# Altium footprint library 常用天线库.PcbLib: 31 footprints (part 2 of 2)
Each footprint in its own frame and in the unit in brackets; x right, y up, seen from the top. Pads: shape width x height; smd on the part's side, far side on the other; paste and mask are expansions set on the pad; w line width, h text height; cw(c..) or ccw(c..) is an arc to the next point about the centre after c.
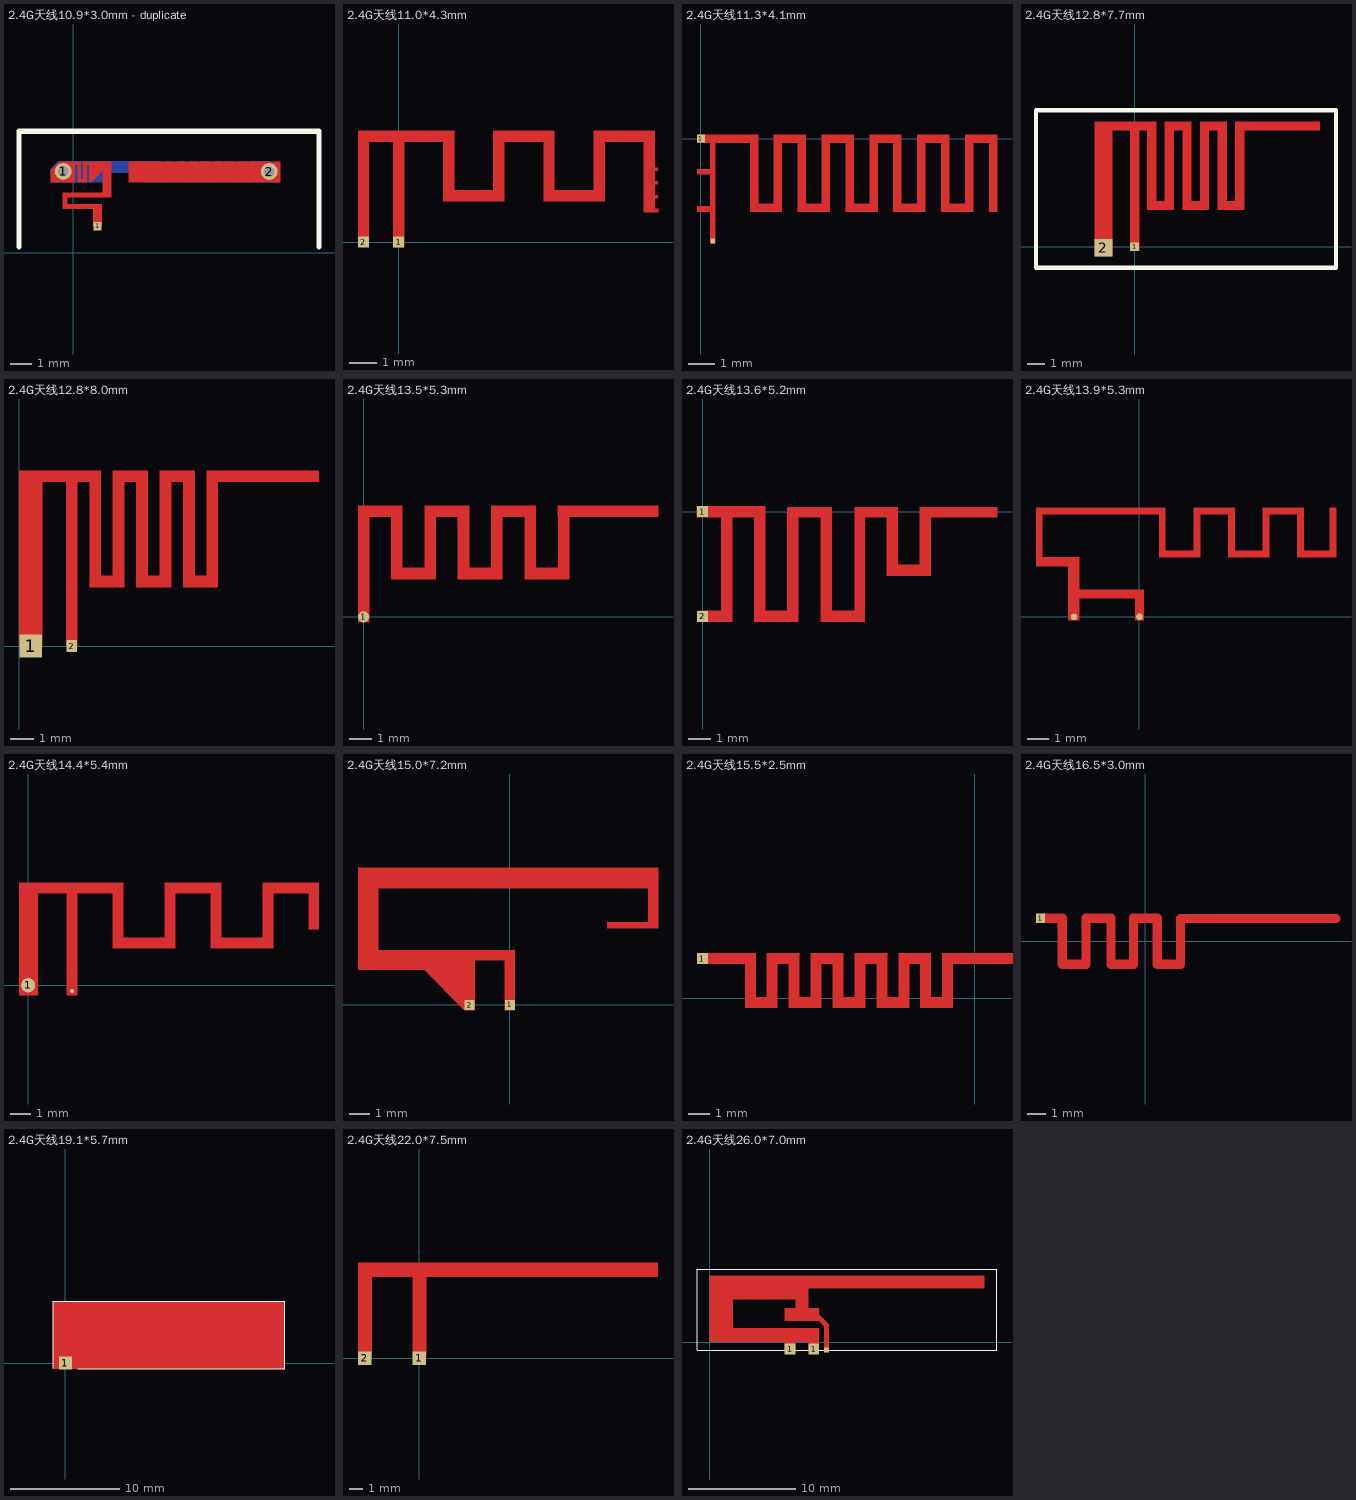
[diagram p1: the footprints below, top view; thin cyan lines are the x and y axes]

## 2.4G天线10.9*3.0mm - duplicate [mm]
pads (3):
  round 0.8 hole 0.5: 1(-0.47,3.89) 2(9.348,3.883)
  rect 0.4x0.4 smd: 1(1.165,1.28)
Top Layer:
  region: 1.426,2.664 1.826,2.664 1.826,4.355 1.426,4.355
  region: 1.707,2.868 -0.319,2.868 -0.319,2.663 1.707,2.663
  region: -0.493,2.868 -0.493,2.113 -0.288,2.113 -0.288,2.868
  region: 0.969,2.318 -0.493,2.318 -0.493,2.113 0.969,2.113
  region: 0.966,1.283 1.365,1.283 1.365,2.318 0.966,2.318
  region: 1.656,4.354 0.762,4.354 0.762,3.371 0.855,3.371 1.656,4.171
  region: 0.492,4.354 0.492,3.37 0.642,3.37 0.642,4.354
  region: 0.797,4.354 0.525,4.354 0.525,4.204 0.797,4.204
  region: 0.572,3.52 0.3,3.52 0.3,3.37 0.572,3.37
  region: 0.225,4.354 0.225,3.37 0.375,3.37 0.375,4.354
  region: 0.257,4.355 -0.015,4.355 -0.015,4.205 0.257,4.205
  region: 0.082,4.354 0.082,3.371 -1.066,3.371 -1.066,3.939 -0.652,4.354
  region: 2.659,4.353 9.871,4.353 9.871,3.374 2.659,3.374
Bottom Layer:
  region: -1.067,3.375 1.655,3.375 1.655,3.824 3.036,3.824 3.493,3.367 3.922,3.367 3.922,4.362 -0.718,4.362 -1.067,4.012
  region: 8.418,4.363 8.418,3.366 8.568,3.366 8.568,4.363
  region: 8.943,4.363 8.503,4.363 8.503,4.213 8.943,4.213
  region: 8.121,4.365 8.121,3.366 8.27,3.366 8.27,4.365
  region: 8.498,3.516 8.227,3.516 8.227,3.366 8.498,3.366
  region: 7.835,4.365 7.835,3.368 7.985,3.368 7.985,4.365
  region: 8.191,4.365 7.92,4.365 7.92,4.216 8.191,4.216
  region: 7.916,3.518 7.644,3.518 7.644,3.368 7.916,3.368
  region: 7.541,4.363 7.541,3.368 7.69,3.368 7.69,4.363
  region: 7.612,4.363 7.34,4.363 7.34,4.214 7.612,4.214
  region: 7.256,4.363 7.256,3.366 7.405,3.366 7.405,4.363
  region: 7.335,3.516 7.064,3.516 7.064,3.366 7.335,3.366
  region: 6.962,4.365 6.962,3.366 7.111,3.366 7.111,4.365
  region: 7.032,4.365 6.761,4.365 6.761,4.216 7.032,4.216
  region: 6.676,4.365 6.676,3.368 6.826,3.368 6.826,4.365
  region: 6.757,3.518 6.485,3.518 6.485,3.368 6.757,3.368
  region: 6.382,4.363 6.382,3.368 6.532,3.368 6.532,4.363
  region: 6.453,4.363 6.181,4.363 6.181,4.214 6.453,4.214
  region: 6.097,4.363 6.097,3.366 6.246,3.366 6.246,4.363
  region: 6.176,3.516 5.905,3.516 5.905,3.366 6.176,3.366
  region: 5.801,4.363 5.801,3.366 5.951,3.366 5.951,4.363
  region: 5.874,4.363 5.602,4.363 5.602,4.213 5.874,4.213
  region: 5.518,4.363 5.518,3.369 5.667,3.369 5.667,4.363
  region: 5.597,3.515 5.325,3.515 5.325,3.369 5.597,3.369
  region: 5.224,4.361 5.224,3.369 5.374,3.369 5.374,4.361
  region: 5.309,4.363 5.038,4.363 5.038,4.213 5.309,4.213
  region: 4.941,4.361 4.941,3.367 5.09,3.367 5.09,4.361
  region: 4.646,4.361 4.646,3.367 4.796,3.367 4.796,4.361
  region: 5.037,3.517 4.765,3.517 4.765,3.367 5.037,3.367
  region: 4.694,4.362 4.423,4.362 4.423,4.212 4.694,4.212
  region: 4.36,4.362 4.36,3.368 4.51,3.368 4.51,4.362
  region: 4.184,3.368 4.455,3.368 4.455,3.517 4.184,3.517
  region: 4.065,4.362 4.065,3.368 4.215,3.368 4.215,4.362
  region: 4.155,4.362 3.884,4.362 3.884,4.212 4.155,4.212
  region: 8.795,4.239 8.795,3.368 9.776,3.368 9.843,3.435 9.843,4.12 9.388,4.363 8.794,4.363 8.794,4.239
Top Overlay:
  lines w0.254: -2.577,0.301 -2.577,5.801 11.723,5.801 11.723,0.301

## 2.4G天线11.0*4.3mm [mm]
pads (2):
  rect 0.4x0.4 smd: 1(0,0) 2(-1.3,0)
Top Layer:
  region: 9.578,1.22 9.136,1.22 9.136,1.107 9.578,1.107
  region: 9.571,2.745 9.135,2.745 9.135,2.632 9.571,2.632
  region: 9.573,2.239 9.136,2.239 9.136,2.126 9.573,2.126
  region: 9.574,1.732 9.135,1.732 9.135,1.619 9.574,1.619
  region: 9.048,1.106 9.45,1.106 9.45,4.108 9.048,4.108
  region: 9.45,3.704 9.45,4.106 7.201,4.106 7.201,3.704
  region: 7.202,1.51 7.604,1.51 7.604,4.106 7.202,4.106
  region: 5.35,1.51 5.752,1.51 5.752,4.103 5.35,4.103
  region: 7.609,1.506 7.609,1.907 5.359,1.907 5.359,1.506
  region: 5.751,3.704 5.751,4.106 3.502,4.106 3.502,3.704
  region: 3.5,1.512 3.902,1.512 3.902,4.101 3.5,4.101
  region: 3.899,1.51 3.899,1.911 1.65,1.911 1.65,1.51
  region: 0.208,3.695 0.208,4.11 -1.495,4.11 -1.495,3.695
  region: 1.651,1.512 2.053,1.512 2.053,4.101 1.651,4.101
  region: 2.05,3.703 2.05,4.104 -0.199,4.104 -0.199,3.703
  region: -0.2,-0.197 0.203,-0.197 0.203,4.1 -0.2,4.1
  region: -1.5,-0.18 -1.098,-0.18 -1.098,4.116 -1.5,4.116

## 2.4G天线11.3*4.1mm [mm]
pads (2):
  rect 0.3x0.3 smd: 1(0,0)
  rect 0.18x0.18 smd: 2(0.44,-3.86)
Top Layer:
  region: 0.35,0.15 1.85,0.15 1.85,-0.15 0.35,-0.15
  region: 1.85,-2.75 2.15,-2.75 2.15,0.15 1.85,0.15
  region: 2.15,-2.45 2.75,-2.45 2.75,-2.75 2.15,-2.75
  region: 2.75,-2.75 3.05,-2.75 3.05,0.15 2.75,0.15
  region: 3.05,0.15 3.65,0.15 3.65,-0.15 3.05,-0.15
  region: 3.65,-2.75 3.95,-2.75 3.95,0.15 3.65,0.15
  region: 3.95,-2.45 4.55,-2.45 4.55,-2.75 3.95,-2.75
  region: 4.55,-2.75 4.85,-2.75 4.85,0.15 4.55,0.15
  region: 4.85,0.15 5.45,0.15 5.45,-0.15 4.85,-0.15
  region: 5.75,-2.45 6.35,-2.45 6.35,-2.75 5.75,-2.75
  region: 5.45,-2.75 5.75,-2.75 5.75,0.15 5.45,0.15
  region: 6.35,-2.75 6.65,-2.75 6.65,0.15 6.35,0.15
  region: 6.65,0.15 7.25,0.15 7.25,-0.15 6.65,-0.15
  region: 7.25,-2.75 7.55,-2.75 7.55,0.15 7.25,0.15
  region: 7.55,-2.45 8.15,-2.45 8.15,-2.75 7.55,-2.75
  region: 8.15,-2.75 8.45,-2.75 8.45,0.15 8.15,0.15
  region: 8.45,0.15 9.05,0.15 9.05,-0.15 8.45,-0.15
  region: 9.05,-2.75 9.35,-2.75 9.35,0.15 9.05,0.15
  region: 9.35,-2.45 9.95,-2.45 9.95,-2.75 9.35,-2.75
  region: 9.95,-2.75 10.25,-2.75 10.25,0.15 9.95,0.15
  region: 10.25,0.15 10.85,0.15 10.85,-0.15 10.25,-0.15
  region: 10.85,-2.75 11.15,-2.75 11.15,0.15 10.85,0.15
  region: -0.15,0.15 0.35,0.15 0.35,-0.15 -0.15,-0.15
  region: 0.35,-1.15 -0.15,-1.15 -0.15,-1.35 0.35,-1.35
  region: 0.35,-2.55 -0.15,-2.55 -0.15,-2.75 0.35,-2.75
  region: 0.53,-0.15 0.35,-0.15 0.35,-3.95 0.53,-3.95

## 2.4G天线12.8*7.7mm [mm]
pads (2):
  rect 0.5x0.5 smd: 1(0,0)
  rect 1x1 smd: 2(-1.766,-0.05)
Top Layer:
  region: 5.714,7.09 10.484,7.09 10.484,6.59 5.714,6.59
  region: 5.714,7.09 6.214,7.09 6.214,2.09 5.714,2.09
  region: 4.714,2.59 6.214,2.59 6.214,2.09 4.714,2.09
  region: 3.714,7.09 5.214,7.09 5.214,6.59 3.714,6.59
  region: 4.714,7.09 5.214,7.09 5.214,2.09 4.714,2.09
  region: 3.714,7.09 4.214,7.09 4.214,2.09 3.714,2.09
  region: 2.714,2.59 4.214,2.59 4.214,2.09 2.714,2.09
  region: 2.714,7.09 3.214,7.09 3.214,2.09 2.714,2.09
  region: 1.714,7.09 3.214,7.09 3.214,6.59 1.714,6.59
  region: 0.714,2.59 2.214,2.59 2.214,2.09 0.714,2.09
  region: 1.714,7.09 2.214,7.09 2.214,2.09 1.714,2.09
  region: 0.714,7.09 1.214,7.09 1.214,2.09 0.714,2.09
  region: -2.266,7.09 1.214,7.09 1.214,6.59 -2.266,6.59
  region: -2.266,6.84 -1.266,6.84 -1.266,-0.552 -2.266,-0.552
  region: -0.244,6.958 0.256,6.958 0.256,-0.242 -0.244,-0.242
Top Overlay:
  lines w0.254: -5.588,-1.179 11.412,-1.179 11.412,7.721 -5.588,7.721 -5.588,-1.179

## 2.4G天线12.8*8.0mm [mm]
pads (2):
  rect 0.95x1 smd: 1(0.5,0)
  rect 0.45x0.5 smd: 2(2.25,0)
Top Layer:
  rectangle: 2,0 2.5,7.5
  rectangle: 2,7 3.5,7.5
  rectangle: 7,2.5 7.5,7.5
  rectangle: 7,2.5 8.5,3
  rectangle: 8,2.5 8.5,7.5
  rectangle: 8,7 12.8,7.5
  rectangle: 5,2.5 5.5,7.5
  rectangle: 5,2.5 6.5,3
  rectangle: 6,2.5 6.5,7.5
  rectangle: 6,7 7.5,7.5
  rectangle: 4,7 5.5,7.5
  rectangle: 4,2.5 4.5,7.5
  rectangle: 3,2.5 4.5,3
  rectangle: 3,2.5 3.5,7.5
  rectangle: 0,7 3.5,7.5
  rectangle: 0,0 1,7.5
  pour cut-out: 0,7.5

## 2.4G天线13.5*5.3mm [mm]
pads (1):
  round 0.5 smd: 1(0,0)
Top Layer:
  region: 1.75,5 -0.25,5 -0.25,4.5 1.75,4.5
  region: 1.75,5 1.25,5 1.25,1.7 1.75,1.7
  region: 3.25,2.2 1.25,2.2 1.25,1.7 3.25,1.7
  region: 3.25,5 2.75,5 2.75,1.7 3.25,1.7
  region: 4.75,5 2.76,5 2.76,4.5 4.75,4.5
  region: 4.75,5 4.25,5 4.25,1.7 4.75,1.7
  region: 6.25,2.21 4.25,2.21 4.25,1.7 6.25,1.7
  region: 6.25,5 5.75,5 5.75,1.71 6.25,1.71
  region: 7.75,5 5.75,5 5.75,4.5 7.75,4.5
  region: 7.75,5 7.25,5 7.25,1.7 7.75,1.7
  region: 9.25,2.2 7.25,2.2 7.25,1.7 9.25,1.7
  region: 9.25,5 8.75,5 8.75,1.7 9.25,1.7
  region: 13.25,5 8.75,5 8.75,4.5 13.25,4.5
  region: 0.25,5 -0.25,5 -0.25,-0.25 0.25,-0.25

## 2.4G天线13.6*5.2mm [mm]
pads (2):
  rect 0.5x0.5 smd: 1(0,0) 2(0,-4.75)
Top Layer:
  region: 1.25,0.25 1.25,-0.25 -0.25,-0.25 -0.25,0.25
  region: 0.85,0.25 2.85,0.25 2.85,-0.25 0.85,-0.25
  region: 0.85,0.2 1.35,0.2 1.35,-5 0.85,-5
  region: 2.35,0.2 2.85,0.2 2.85,-5 2.35,-5
  region: 4.15,0.2 5.7,0.2 5.7,-0.25 4.15,-0.25
  region: 3.85,0.2 4.35,0.2 4.35,-5 3.85,-5
  region: 5.35,0.2 5.85,0.2 5.85,-5 5.35,-5
  region: 7.1,0.2 8.7,0.2 8.7,-0.25 7.1,-0.25
  region: 6.9,0.2 7.35,0.2 7.35,-5 6.9,-5
  region: 10.1,0.2 13.35,0.2 13.35,-0.25 10.1,-0.25
  region: 2.55,-4.5 4.15,-4.5 4.15,-5 2.55,-5
  region: 5.6,-4.5 7.15,-4.5 7.15,-5 5.6,-5
  region: 8.6,-2.4 10.2,-2.4 10.2,-2.9 8.6,-2.9
  region: 8.35,0.2 8.85,0.2 8.85,-2.9 8.35,-2.9
  region: 9.85,0.2 10.35,0.2 10.35,-2.9 9.85,-2.9
  region: -0.17,-4.5 1.33,-4.5 1.33,-5 -0.17,-5

## 2.4G天线13.9*5.3mm [mm]
pads (2):
  round 0.3 smd: 1(0,0) 2(-3.028,-0.013)
Top Layer:
  region: 9.108,5.043 9.108,2.743 7.308,2.743 7.308,4.743 6.008,4.743 6.008,2.743 4.108,2.743 4.108,4.743 2.808,4.743 2.808,2.743 0.908,2.743 0.908,4.743 -4.492,4.743 -4.492,2.743 -2.792,2.743 -2.792,1.243 0.208,1.243 0.208,0.843 -2.792,0.843 -2.792,-0.157 -3.292,-0.157 -3.292,2.343 -4.792,2.343 -4.792,5.043 1.208,5.043 1.208,3.043 2.508,3.043 2.508,5.043 4.408,5.043 4.408,3.043 5.708,3.043 5.708,5.043 7.608,5.043 7.608,3.043 8.808,3.043 8.808,5.043
  region: 0.207,1.242 0.207,-0.158 -0.193,-0.158 -0.193,1.242

## 2.4G天线14.4*5.4mm [mm]
pads (2):
  round 0.68 smd paste-0.34: 1(0,0)
  round 0.2 smd paste-0.1: 2(2.112,-0.283)
Top Layer:
  region: 1.86,-0.48 2.36,-0.48 2.36,4.83 1.86,4.83
  region: 13.461,2.696 13.961,2.696 13.961,4.92 13.461,4.92
  region: 11.262,4.419 13.962,4.419 13.962,4.919 11.262,4.919
  region: 11.262,1.779 11.765,1.779 11.765,4.919 11.262,4.919
  region: 8.762,1.779 11.765,1.779 11.765,2.279 8.762,2.279
  region: 8.761,1.78 9.261,1.78 9.261,4.92 8.761,4.92
  region: 6.561,4.42 9.261,4.42 9.261,4.92 6.561,4.92
  region: 6.562,1.779 7.062,1.779 7.062,4.919 6.562,4.919
  region: 4.061,1.78 7.061,1.78 7.061,2.28 4.061,2.28
  region: 4.06,1.78 4.56,1.78 4.56,4.92 4.06,4.92
  region: -0.439,4.42 4.561,4.42 4.561,4.92 -0.439,4.92
  region: -0.438,-0.481 0.462,-0.481 0.462,4.919 -0.438,4.919

## 2.4G天线15.0*7.2mm [mm]
pads (2):
  rect 0.5x0.5 smd: 1(0,0) 2(-2.015,-0.005)
Top Layer:
  region: 4.875,3.845 4.875,4.145 6.905,4.145 6.905,5.845 -6.595,5.845 -6.595,2.745 0.245,2.745 0.245,-0.255 -0.255,-0.255 -0.255,2.245 -1.755,2.245 -1.755,-0.255 -2.285,-0.255 -4.285,1.745 -7.595,1.745 -7.595,6.845 7.405,6.845 7.405,3.845

## 2.4G天线15.5*2.5mm [mm]
pads (1):
  rect 0.5x0.5 smd: 1(-12.42,1.81)
Top Layer:
  region: -1.24,-0.44 -1.24,0.06 -2.24,0.06 -2.24,-0.44
  rectangle: -1.49,-0.44 -0.99,2.06
  region: 2.76,1.56 2.76,2.06 -1.24,2.06 -1.24,1.56
  region: -3.24,-0.44 -3.24,0.06 -4.24,0.06 -4.24,-0.44
  rectangle: -3.49,-0.44 -2.99,2.06
  region: -2.24,1.56 -2.24,2.06 -3.24,2.06 -3.24,1.56
  rectangle: -2.49,-0.44 -1.99,2.06
  region: -5.24,-0.44 -5.24,0.06 -6.24,0.06 -6.24,-0.44
  rectangle: -5.49,-0.44 -4.99,2.06
  region: -4.24,1.56 -4.24,2.06 -5.24,2.06 -5.24,1.56
  rectangle: -4.49,-0.44 -3.99,2.06
  region: -7.24,-0.44 -7.24,0.06 -8.24,0.06 -8.24,-0.44
  rectangle: -7.49,-0.44 -6.99,2.06
  region: -6.24,1.56 -6.24,2.06 -7.24,2.06 -7.24,1.56
  rectangle: -6.49,-0.44 -5.99,2.06
  rectangle: -8.49,-0.44 -7.99,2.06
  region: -8.24,1.56 -8.24,2.06 -9.24,2.06 -9.24,1.56
  rectangle: -9.49,-0.44 -8.99,2.06
  region: -12.44,2.06 -12.44,1.56 -10.24,1.56 -10.24,2.06
  rectangle: -10.49,-0.44 -9.99,2.06
  region: -9.24,-0.44 -9.24,0.06 -10.24,0.06 -10.24,-0.44
  pour cut-out: 0.8,6.1

## 2.4G天线16.5*3.0mm [mm] "ANT_PIFA_N2450_2L_1P0_002L"
pads (1):
  rect 0.5x0.5 smd: 1(-5.69,1.254)
Top Layer:
  lines w0.5: -5.518,1.254 -4.518,1.254 -4.518,-1.246 -3.218,-1.246 -3.218,1.254 -1.858,1.254 -1.858,-1.246 -0.648,-1.246 -0.648,1.254 0.652,1.254 0.652,-1.246 1.912,-1.246 1.912,1.244 10.362,1.244
Drill Drawing:
  lines w0.025: -2.098,-0.137 -2.098,-0.136 ; 2.022,1.243 2.022,1.244 ; 10.323,1.243 10.323,1.244 ; -5.513,1.253 -5.513,1.254 ; -4.521,1.253 -4.521,1.254 ; -2.998,-0.017 -2.998,-0.016 ; 0.652,-1.228 0.652,-1.228 ; 1.912,-1.205 1.912,-1.205

## 2.4G天线19.1*5.7mm [mm] "ANT_MONO_N2450_2L_1P0_003L"
pads (1):
  rect 1.2x1.2 smd: 1(0,0)
Top Layer:
  region: 18.5,3.9 18.5,5.1 -0.6,5.1 -0.6,3.9
  region: 0.6,4.5 -0.6,4.5 -0.6,0 0.6,0
  pour cut-out: 19.2,5.6
  pour cut-out: 20,5.6 -1.1,5.6 -1.1,-0.5 20,-0.5
Bottom Layer:
  pour cut-out: 20,5.6 -1.1,5.6 -1.1,-0.5 20,-0.5
Top Overlay:
  region: -1.1,-0.5 -1.1,5.7 -1.2,5.7 -1.2,-0.5
  region: 20.1,5.7 -1.2,5.7 -1.2,5.6 20.1,5.6
  region: 20.1,-0.5 1.1,-0.5 1.1,-0.6 20.1,-0.6
  region: 20.1,-0.6 20.1,5.7 20,5.7 20,-0.6

## 2.4G天线22.0*7.5mm [mm]
pads (2):
  rect 1x1 smd: 1(0,0) 2(-4,0)
Top Layer:
  region: -4.5,7 17.5,7 17.5,6 -4.5,6
  region: -4.5,6.09 -3.5,6.09 -3.5,-0.02 -4.5,-0.02
  region: -0.5,6.04 0.5,6.04 0.5,0.16 -0.5,0.16
Drill Drawing:
  lines w0.025: -3.988,0.553 -3.987,0.553 ; -3.97,5.967 -3.969,5.967 ; 0.039,0.626 0.039,0.626 ; 0.3,6.438 0.3,6.438 ; 0.399,-0.103 0.4,-0.103 ; 17.5,6 17.501,6

## 2.4G天线26.0*7.0mm [mm] "26*7mm"
pads (3):
  rect 1x1 smd: 1(7.48,-0.66) 1(9.68,-0.66)
  rect 0.46x0.46 smd: 2(10.86,-0.75)
Top Layer:
  region: 6.98,3.16 6.98,1.95 10.18,1.95 10.18,3.16
  region: 9.18,6.17 7.98,6.17 7.98,1.95 9.18,1.95
  region: 9.18,3.96 9.18,6.17 0,6.17 0,3.96
  region: 10.18,1.29 9.18,1.29 9.18,-0.74 10.18,-0.74
  region: 7.98,1.29 6.98,1.29 6.98,-0.74 7.98,-0.74
  region: 10.18,0 10.18,1.29 0,1.29 0,0
  region: 25.58,6.17 0,6.17 0,4.96 25.58,4.96
  rectangle: 0,0 2.18,6.17
  region: 11.09,-0.74 11.09,1.65 10.63,1.65 10.63,-0.74
  region: 11.09,1.65 10.145,2.595 9.82,2.27 10.765,1.325
Top Overlay:
  lines w0.1: -1.18,6.76 -1.18,-0.76 26.72,-0.76 26.72,6.76 -1.15,6.76